# Altium schematic symbol library 74系列芯片.SchLib: 18 symbols
Pins are listed as number, name and electrical type; pins without a type are passive.

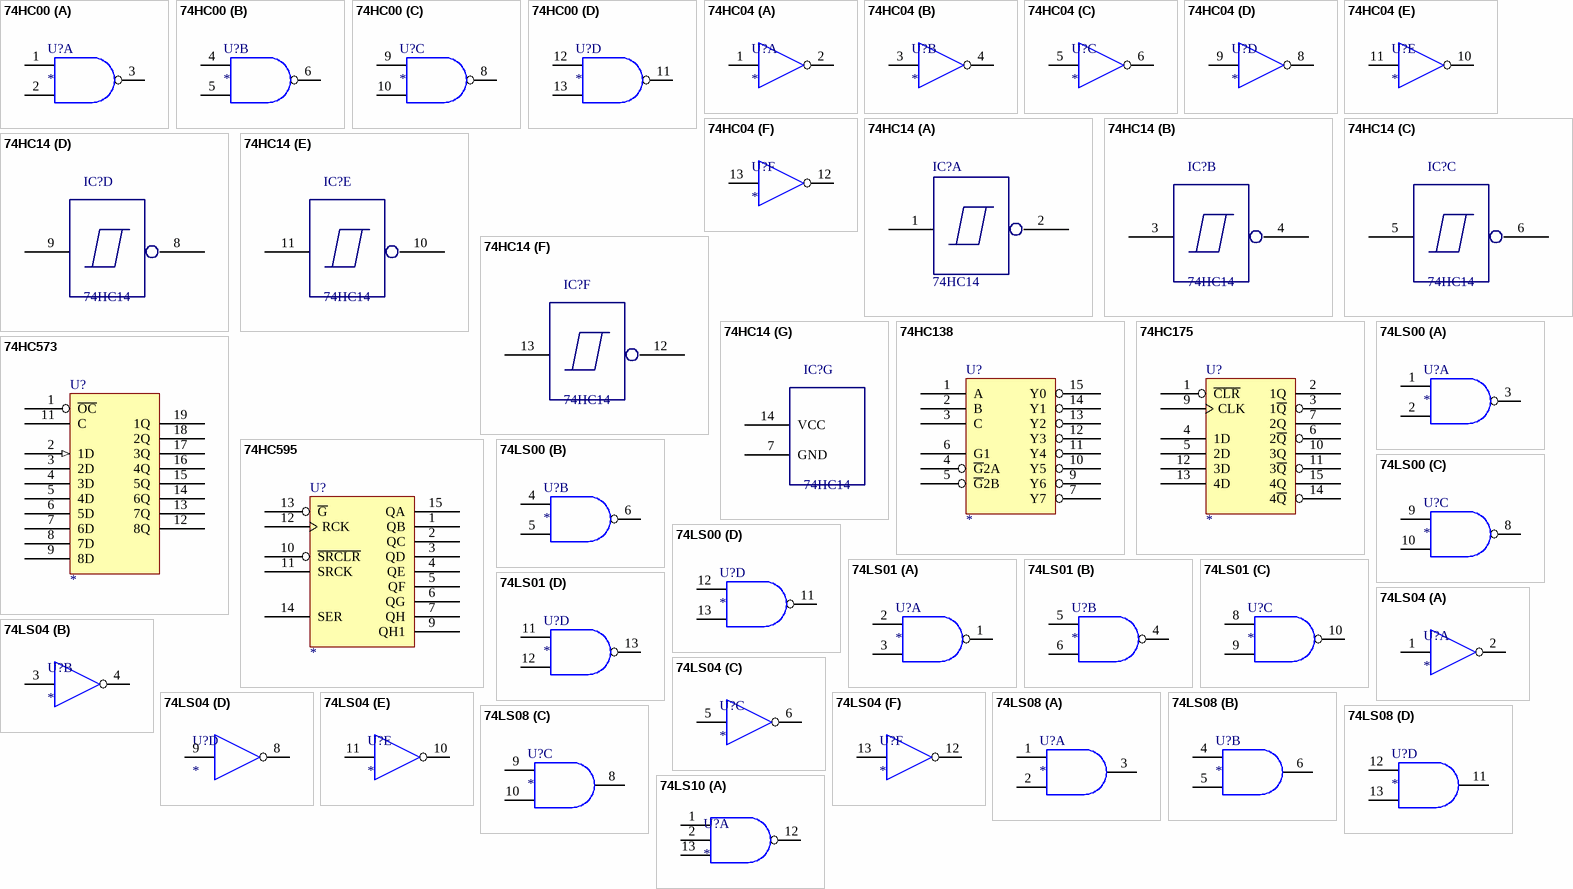
[diagram p0: symbols 74HC00 to 74LS10]

## 74HC00
designator U?
四2输入与非门
footprint DIP14
footprint DIP14_MH
footprint SOP14
part A pins: 1 A, 2 B, 3 Y, 7 GND hidden, 14 VCC hidden
part B pins: 4 A, 5 B, 6 Y
part C pins: 8 Y, 9 A, 10 B
part D pins: 11 Y, 12 A, 13 B

## 74HC04
designator U?
6通道单输入输出反相器
footprint DIP14
footprint SOP14
footprint DIP14_MH
part A pins: 1 A, 2 Y, 7 GND hidden, 14 VCC hidden
part B pins: 3 A, 4 Y
part C pins: 5 A, 6 Y
part D pins: 8 Y, 9 A
part E pins: 10 Y, 11 A
part F pins: 12 Y, 13 A

## 74HC14
designator IC?
footprint SOIC-14 (SOIC, 14-Leads, Body 8.65x3.90mm, Pitch 1.27mm, IPC Medium Density)
part A pins: 1 1A, 2 1Y
part B pins: 3 2A, 4 2Y
part C pins: 5 3A, 6 3Y
part D pins: 8 4Y, 9 4A
part E pins: 10 5Y, 11 5A
part F pins: 12 6Y, 13 6A
part G pins: 7 GND, 14 VCC

## 74HC138
designator U?
3线到8线路解码器
footprint DIP16
footprint DIP16_MH
footprint SOP16
pins: 1 A, 2 B, 3 C, 4 ~{G}2A, 5 ~{G}2B, 6 G1, 7 Y7, 8 GND hidden to GND, 9 Y6, 10 Y5, 11 Y4, 12 Y3, 13 Y2, 14 Y1, 15 Y0, 16 VCC hidden to VCC
1 alternate drawing of the same symbol

## 74HC175
designator U?
四D型触发器的复位触发器
footprint DIP16
footprint DIP16_MH
footprint SOP16
pins: 1 ~{CLR}, 2 1Q, 3 1~{Q}, 4 1D, 5 2D, 6 2~{Q}, 7 2Q, 8 GND hidden to GND, 9 CLK, 10 3Q, 11 3~{Q}, 12 3D, 13 4D, 14 4~{Q}, 15 4Q, 16 VCC hidden to VCC
1 alternate drawing of the same symbol

## 74HC573
designator U?
八路三态同相透明锁存器
footprint DIP20
footprint DIP20_MH
footprint SOP20
pins: 1 ~{OC}, 2 1D (in), 3 2D, 4 3D, 5 4D, 6 5D, 7 6D, 8 7D, 9 8D, 10 GND hidden to GND, 11 C, 12 8Q, 13 7Q, 14 6Q, 15 5Q, 16 4Q, 17 3Q, 18 2Q, 19 1Q, 20 VCC hidden to VCC
1 alternate drawing of the same symbol

## 74HC595
designator U?
8位串行输入/8位串行或并行输出 存储状态寄存器
footprint DIP16_MH
footprint DIP16
footprint SOP16
pins: 1 QB, 2 QC, 3 QD, 4 QE, 5 QF, 6 QG, 7 QH, 8 GND hidden to GND, 9 QH1, 10 ~{SRCLR}, 11 SRCK, 12 RCK, 13 ~{G}, 14 SER, 15 QA, 16 VCC hidden to VCC
1 alternate drawing of the same symbol

## 74LS00
designator U?
四2输入与非门
footprint DIP14
footprint DIP14_MH
footprint SOP14
part A pins: 1 A, 2 B, 3 Y, 7 GND hidden, 14 VCC hidden
part B pins: 4 A, 5 B, 6 Y
part C pins: 8 Y, 9 A, 10 B
part D pins: 11 Y, 12 A, 13 B

## 74LS01
designator U?
四2输入与非门
footprint DIP14
footprint DIP14_MH
footprint SOP14
part A pins: 1 Y, 2 A, 3 B, 7 GND hidden, 14 VCC hidden
part B pins: 4 Y, 5 A, 6 B
part C pins: 8 A, 9 B, 10 Y
part D pins: 11 A, 12 B, 13 Y

## 74LS04
designator U?
十六进制逆变器
footprint DIP14
footprint DIP14_MH
footprint SOP14
part A pins: 1 A, 2 Y, 7 GND hidden, 14 VCC hidden
part B pins: 3 A, 4 Y
part C pins: 5 A, 6 Y
part D pins: 8 Y, 9 A
part E pins: 10 Y, 11 A
part F pins: 12 Y, 13 A

## 74LS08
designator U?
四2输入与门
footprint DIP14
footprint DIP14_MH
footprint SOP14
part A pins: 1 A, 2 B, 3 Y, 7 GND hidden, 14 VCC hidden
part B pins: 4 A, 5 B, 6 Y
part C pins: 8 Y, 9 A, 10 B
part D pins: 11 Y, 12 A, 13 B

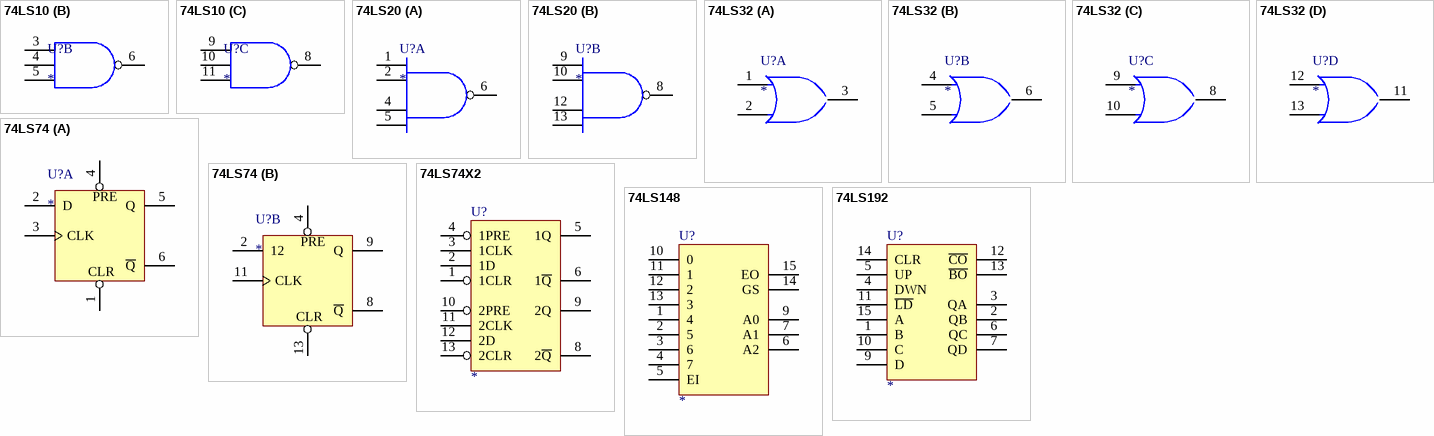
[diagram p1: symbols 74LS10 to 74LS192]

## 74LS10
designator U?
三3输入与非门
footprint DIP14
footprint DIP14_MH
footprint SOP14
part A pins: 1 A, 2 B, 7 GND hidden, 12 Y, 13 C, 14 VCC hidden
part B pins: 3 A, 4 B, 5 C, 6 Y
part C pins: 8 Y, 9 A, 10 B, 11 C

## 74LS20
designator U?
双4输入与非门
footprint DIP14
footprint DIP14_MH
footprint SOP14
part A pins: 1 A, 2 B, 3 NC hidden, 4 C, 5 D, 6 Y, 7 GND hidden, 11 NC hidden, 14 VCC hidden
part B pins: 8 Y, 9 A, 10 B, 12 C, 13 D

## 74LS32
designator U?
四2输入或门
footprint DIP14
footprint DIP14_MH
footprint SOP14
part A pins: 1 A, 2 B, 3 Y, 7 GND hidden, 14 VCC hidden
part B pins: 4 A, 5 B, 6 Y
part C pins: 8 Y, 9 A, 10 B
part D pins: 11 Y, 12 A, 13 B

## 74LS74
designator U?
双路D类上升沿触发器
footprint DIP14
footprint DIP14_MH
footprint SOP14
part A pins: 1 ~{CLR}, 2 D, 3 CLK, 4 ~{PRE}, 5 Q, 6 ~{Q}, 7 GND hidden, 14 VCC hidden
part B pins: 2 12, 4 10, 8 ~{Q}, 9 Q, 11 CLK, 13 ~{CLR}
part A text: PRE; CLR
part B text: PRE; CLR

## 74LS74X2
designator U?
双路D类上升沿触发器
footprint DIP14
footprint DIP14_MH
footprint SOP14
pins: 1 1CLR, 2 1D, 3 1CLK, 4 1PRE, 5 1Q, 6 1~{Q}, 7 GND hidden to GND, 8 2~{Q}, 9 2Q, 10 2PRE, 11 2CLK, 12 2D, 13 2CLR, 14 VCC hidden to VCC
1 alternate drawing of the same symbol

## 74LS148
designator U?
8线到3线优先编码器
footprint DIP16
footprint DIP16_MH
footprint SOP16
pins: 1 4, 2 5, 3 6, 4 7, 5 EI, 6 A2, 7 A1, 8 GND hidden to GND, 9 A0, 10 0, 11 1, 12 2, 13 3, 14 GS, 15 EO, 16 VCC hidden to VCC
1 alternate drawing of the same symbol

## 74LS192
designator U?
双时钟方式的十进制可逆计数器
footprint DIP16
footprint DIP16_MH
footprint SOP16
pins: 1 B, 2 QB, 3 QA, 4 DWN, 5 UP, 6 QC, 7 QD, 8 GND hidden to GND, 9 D, 10 C, 11 ~{LD}, 12 ~{CO}, 13 ~{BO}, 14 CLR, 15 A (oc), 16 VCC hidden to VCC
1 alternate drawing of the same symbol